# Altium schematic symbol library kmilo17pet-TI_LDO_0_350.SchLib: 1649 symbols (part 4 of 66)
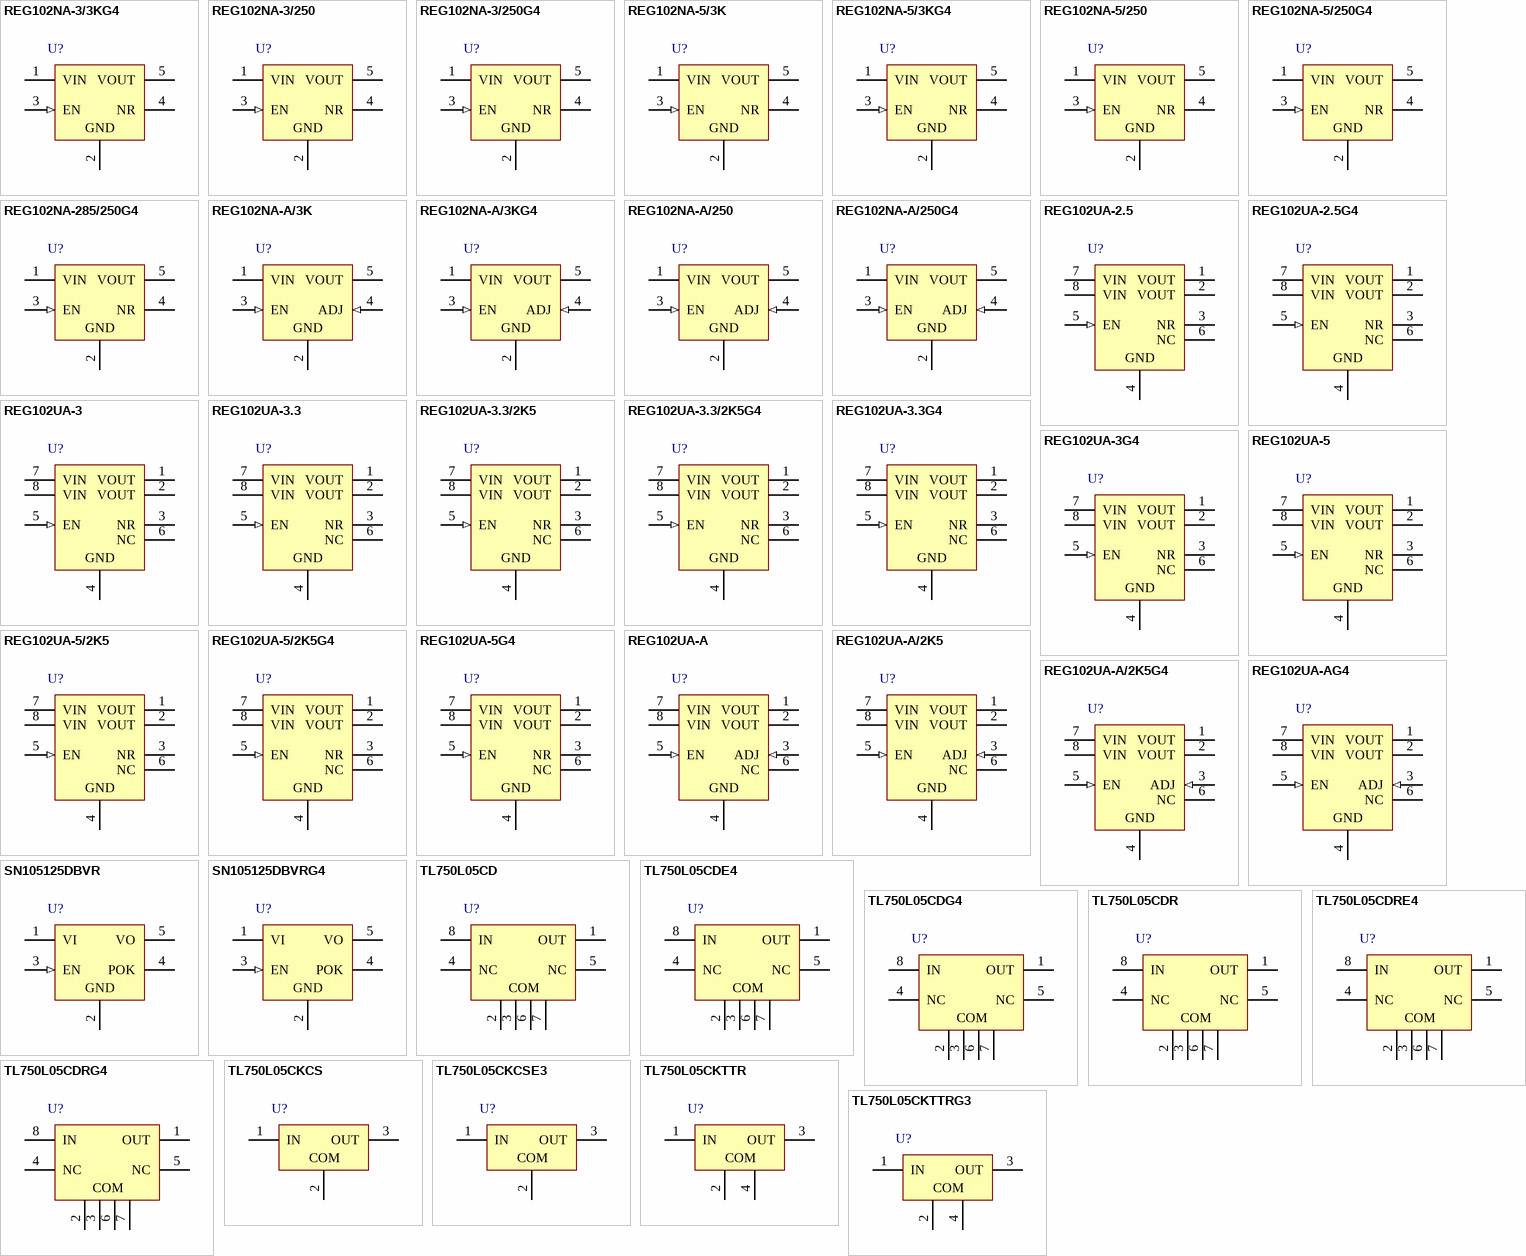
[diagram p45: symbols REG102NA-3/3KG4 to TL750L05CKTTRG3]

## REG102NA-A/250G4
designator U?
Single Output Fast Transient Response LDO, 250 mA, Adjustable 2.5 to 5.5 V Output, 1.8 to 12 V Input, 5-pin SOT-23 (DBV), -55 to 125 degC, Green (RoHS & no Sb/Br); Manufacturer: Texas Instruments; PartNumber: REG102NA-A/250G4; Accuracy(%): 1.5; Iout(Max)(A): 0.25; Iq(Typ)(mA): 0.4; SubFamily: Single Channel LDO; Vdo(Typ)(mV): 150; Vin(Max)(V): 12; Vin(Min)(V): 1.8; Vout Adj(Max)(V): 5.5; Vout Adj(Min)(V): 2.5; DatasheetVersion: SBVS024F; PackageVersion: 4073253-4/K; PackageReference: DBV5; PackageDescription: 5-Pin Plastic Small Outline, Body 1.60 Ã— 2.90 mm, Pitch 0.95 mm; Supplier 1: Digi-Key; Supplier Part Number 1: REG102NA-A/250G4-ND; Supplier 2: Mouser; Supplier Part Number 2: 595-REG102NA-A/250G4; Eco-Plan: Green (RoHS & no Sb/Br); Mounting Technology: Surface Mount; Code_JEDEC: MO-178; ComponentLink1Description: Manufacturer URL; ComponentLink1URL: http://www.ti.com/; ComponentLink2Description: Datasheet; ComponentLink2URL: http://www.ti.com/general/docs/lit/getliterature.tsp?genericPartNumber=REG102-A&fileType=pdf; ComponentLink3Description: Package Specification; ComponentLink3URL: http://www.ti.com/litv/pdf/mpds018i
footprint TI-DBV5_N (SOT23, 5-Leads, Body 2.9x1.6mm, Pitch 0.95mm, IPC Medium Density)
footprint TI-DBV5_L (SOT23, 5-Leads, Body 2.9x1.6mm, Pitch 0.95mm, IPC High Density)
footprint TI-DBV5_M (SOT23, 5-Leads, Body 2.9x1.6mm, Pitch 0.95mm, IPC Low Density)
pins: 1 VIN (power), 2 (power), 3 EN (in), 4 ADJ (in), 5 VOUT (power)
text: GND

## REG102UA-2.5
designator U?
Single Output Fast Transient Response LDO, 250 mA, Fixed 2.5 V Output, 1.8 to 12 V Input, 8-pin SOIC (D), -40 to 85 degC, Green (RoHS & no Sb/Br); Manufacturer: Texas Instruments; PartNumber: REG102UA-2.5; Accuracy(%): 1.5; Fixed Output Options(V): 2.5; Iout(Max)(A): 0.25; Iq(Typ)(mA): 0.4; SubFamily: Single Channel LDO; Vdo(Typ)(mV): 150; Vin(Max)(V): 12; Vin(Min)(V): 1.8; DatasheetVersion: SBVS024F; PackageVersion: 4040047-3/M; PackageReference: D8; PackageDescription: 8-Pin Plastic Small Outline, Body 4.9 x 3.9 mm, Pitch 1.27 mm; Supplier 1: Digi-Key; Supplier Part Number 1: REG102UA-2.5-ND; Supplier 2: Mouser; Supplier Part Number 2: 595-REG102UA-2.5; Eco-Plan: Green (RoHS & no Sb/Br); Vout Adj(Max)(V): 2.5; Vout Adj(Min)(V): 2.5; Mounting Technology: Surface Mount; Code_JEDEC: MS-012; ComponentLink1Description: Manufacturer URL; ComponentLink1URL: http://www.ti.com/; ComponentLink2Description: Datasheet; ComponentLink2URL: http://www.ti.com/general/docs/lit/getliterature.tsp?genericPartNumber=REG102-25&fileType=pdf; ComponentLink3Description: Package Specification; ComponentLink3URL: http://www.ti.com/litv/pdf/msoi002j
footprint TI-D8_N (SOIC, 8-Leads, Body 4.9x3.9mm, Pitch 1.27mm, IPC Medium Density)
footprint TI-D8_L (SOIC, 8-Leads, Body 4.9x3.9mm, Pitch 1.27mm, IPC High Density)
footprint TI-D8_M (SOIC, 8-Leads, Body 4.9x3.9mm, Pitch 1.27mm, IPC Low Density)
pins: 1 VOUT (power), 2 VOUT (power), 3 NR, 4 GND (power), 5 EN (in), 6 NC, 7 VIN (power), 8 VIN (power)

## REG102UA-2.5G4
designator U?
Single Output Fast Transient Response LDO, 250 mA, Fixed 2.5 V Output, 1.8 to 12 V Input, 8-pin SOIC (D), -55 to 125 degC, Green (RoHS & no Sb/Br); Manufacturer: Texas Instruments; PartNumber: REG102UA-2.5G4; Accuracy(%): 1.5; Fixed Output Options(V): 2.5; Iout(Max)(A): 0.25; Iq(Typ)(mA): 0.4; SubFamily: Single Channel LDO; Vdo(Typ)(mV): 150; Vin(Max)(V): 12; Vin(Min)(V): 1.8; DatasheetVersion: SBVS024F; PackageVersion: 4040047-3/M; PackageReference: D8; PackageDescription: 8-Pin Plastic Small Outline, Body 4.9 x 3.9 mm, Pitch 1.27 mm; Supplier 1: Digi-Key; Supplier Part Number 1: REG102UA-2.5G4-ND; Supplier 2: Newark; Supplier Part Number 2: 14M2178; Supplier 3: Mouser; Supplier Part Number 3: 595-REG102UA-2.5G4; Eco-Plan: Green (RoHS & no Sb/Br); Vout Adj(Max)(V): 2.5; Vout Adj(Min)(V): 2.5; Mounting Technology: Surface Mount; Code_JEDEC: MS-012; ComponentLink1Description: Manufacturer URL; ComponentLink1URL: http://www.ti.com/; ComponentLink2Description: Datasheet; ComponentLink2URL: http://www.ti.com/general/docs/lit/getliterature.tsp?genericPartNumber=REG102-25&fileType=pdf; ComponentLink3Description: Package Specification; ComponentLink3URL: http://www.ti.com/litv/pdf/msoi002j
footprint TI-D8_N (SOIC, 8-Leads, Body 4.9x3.9mm, Pitch 1.27mm, IPC Medium Density)
footprint TI-D8_L (SOIC, 8-Leads, Body 4.9x3.9mm, Pitch 1.27mm, IPC High Density)
footprint TI-D8_M (SOIC, 8-Leads, Body 4.9x3.9mm, Pitch 1.27mm, IPC Low Density)
pins: 1 VOUT (power), 2 VOUT (power), 3 NR, 4 GND (power), 5 EN (in), 6 NC, 7 VIN (power), 8 VIN (power)

## REG102UA-3
designator U?
Single Output Fast Transient Response LDO, 250 mA, Fixed 3 V Output, 1.8 to 12 V Input, 8-pin SOIC (D), -40 to 85 degC, Green (RoHS & no Sb/Br); Manufacturer: Texas Instruments; PartNumber: REG102UA-3; Accuracy(%): 1.5; Fixed Output Options(V): 3; Iout(Max)(A): 0.25; Iq(Typ)(mA): 0.4; SubFamily: Single Channel LDO; Vdo(Typ)(mV): 150; Vin(Max)(V): 12; Vin(Min)(V): 1.8; DatasheetVersion: SBVS024F; PackageVersion: 4040047-3/M; PackageReference: D8; PackageDescription: 8-Pin Plastic Small Outline, Body 4.9 x 3.9 mm, Pitch 1.27 mm; Supplier 1: Digi-Key; Supplier Part Number 1: REG102UA-3-ND; Supplier 2: Newark; Supplier Part Number 2: 75C7486; Supplier 3: Mouser; Supplier Part Number 3: 595-REG102UA-3; Eco-Plan: Green (RoHS & no Sb/Br); Vout Adj(Max)(V): 3; Vout Adj(Min)(V): 3; Mounting Technology: Surface Mount; Code_JEDEC: MS-012; ComponentLink1Description: Manufacturer URL; ComponentLink1URL: http://www.ti.com/; ComponentLink2Description: Datasheet; ComponentLink2URL: http://www.ti.com/general/docs/lit/getliterature.tsp?genericPartNumber=REG102-3&fileType=pdf; ComponentLink3Description: Package Specification; ComponentLink3URL: http://www.ti.com/litv/pdf/msoi002j
footprint TI-D8_N (SOIC, 8-Leads, Body 4.9x3.9mm, Pitch 1.27mm, IPC Medium Density)
footprint TI-D8_L (SOIC, 8-Leads, Body 4.9x3.9mm, Pitch 1.27mm, IPC High Density)
footprint TI-D8_M (SOIC, 8-Leads, Body 4.9x3.9mm, Pitch 1.27mm, IPC Low Density)
pins: 1 VOUT (power), 2 VOUT (power), 3 NR, 4 GND (power), 5 EN (in), 6 NC "Not connect", 7 VIN (power), 8 VIN (power)

## REG102UA-3.3
designator U?
Single Output Fast Transient Response LDO, 250 mA, Fixed 3.3 V Output, 1.8 to 12 V Input, 8-pin SOIC (D), -40 to 85 degC, Green (RoHS & no Sb/Br); Manufacturer: Texas Instruments; PartNumber: REG102UA-3.3; Accuracy(%): 1.5; Fixed Output Options(V): 3.3; Iout(Max)(A): 0.25; Iq(Typ)(mA): 0.4; SubFamily: Single Channel LDO; Vdo(Typ)(mV): 150; Vin(Max)(V): 12; Vin(Min)(V): 1.8; DatasheetVersion: SBVS024F; PackageVersion: 4040047-3/M; PackageReference: D8; PackageDescription: 8-Pin Plastic Small Outline, Body 4.9 x 3.9 mm, Pitch 1.27 mm; Supplier 1: Digi-Key; Supplier Part Number 1: REG102UA-3.3-ND; Supplier 2: Newark; Supplier Part Number 2: 75C7487; Supplier 3: Mouser; Supplier Part Number 3: 595-REG102UA-3.3; Eco-Plan: Green (RoHS & no Sb/Br); Vout Adj(Max)(V): 3.3; Vout Adj(Min)(V): 3.3; Mounting Technology: Surface Mount; Code_JEDEC: MS-012; ComponentLink1Description: Manufacturer URL; ComponentLink1URL: http://www.ti.com/; ComponentLink2Description: Datasheet; ComponentLink2URL: http://www.ti.com/general/docs/lit/getliterature.tsp?genericPartNumber=REG102-33&fileType=pdf; ComponentLink3Description: Package Specification; ComponentLink3URL: http://www.ti.com/litv/pdf/msoi002j
footprint TI-D8_N (SOIC, 8-Leads, Body 4.9x3.9mm, Pitch 1.27mm, IPC Medium Density)
footprint TI-D8_L (SOIC, 8-Leads, Body 4.9x3.9mm, Pitch 1.27mm, IPC High Density)
footprint TI-D8_M (SOIC, 8-Leads, Body 4.9x3.9mm, Pitch 1.27mm, IPC Low Density)
pins: 1 VOUT (power), 2 VOUT (power), 3 NR, 4 GND (power), 5 EN (in), 6 NC, 7 VIN (power), 8 VIN (power)

## REG102UA-3.3/2K5
designator U?
Single Output Fast Transient Response LDO, 250 mA, Fixed 3.3 V Output, 1.8 to 12 V Input, 8-pin SOIC (D), -40 to 85 degC, Green (RoHS & no Sb/Br); Manufacturer: Texas Instruments; PartNumber: REG102UA-3.3/2K5; Accuracy(%): 1.5; Fixed Output Options(V): 3.3; Iout(Max)(A): 0.25; Iq(Typ)(mA): 0.4; SubFamily: Single Channel LDO; Vdo(Typ)(mV): 150; Vin(Max)(V): 12; Vin(Min)(V): 1.8; DatasheetVersion: SBVS024F; PackageVersion: 4040047-3/M; PackageReference: D8; PackageDescription: 8-Pin Plastic Small Outline, Body 4.9 x 3.9 mm, Pitch 1.27 mm; Supplier 1: Digi-Key; Supplier Part Number 1: REG102UA-3.3/2K5-ND; Supplier 2: Newark; Supplier Part Number 2: 75C7488; Supplier 3: Mouser; Supplier Part Number 3: 595-REG102UA-3.3/2K5; Eco-Plan: Green (RoHS & no Sb/Br); Vout Adj(Max)(V): 3.3; Vout Adj(Min)(V): 3.3; Mounting Technology: Surface Mount; Code_JEDEC: MS-012; ComponentLink1Description: Manufacturer URL; ComponentLink1URL: http://www.ti.com/; ComponentLink2Description: Datasheet; ComponentLink2URL: http://www.ti.com/general/docs/lit/getliterature.tsp?genericPartNumber=REG102-33&fileType=pdf; ComponentLink3Description: Package Specification; ComponentLink3URL: http://www.ti.com/litv/pdf/msoi002j
footprint TI-D8_N (SOIC, 8-Leads, Body 4.9x3.9mm, Pitch 1.27mm, IPC Medium Density)
footprint TI-D8_L (SOIC, 8-Leads, Body 4.9x3.9mm, Pitch 1.27mm, IPC High Density)
footprint TI-D8_M (SOIC, 8-Leads, Body 4.9x3.9mm, Pitch 1.27mm, IPC Low Density)
pins: 1 VOUT (power), 2 VOUT (power), 3 NR, 4 GND (power), 5 EN (in), 6 NC, 7 VIN (power), 8 VIN (power)

## REG102UA-3.3/2K5G4
designator U?
Single Output Fast Transient Response LDO, 250 mA, Fixed 3.3 V Output, 1.8 to 12 V Input, 8-pin SOIC (D), -40 to 85 degC, Green (RoHS & no Sb/Br); Manufacturer: Texas Instruments; PartNumber: REG102UA-3.3/2K5G4; Accuracy(%): 1.5; Fixed Output Options(V): 3.3; Iout(Max)(A): 0.25; Iq(Typ)(mA): 0.4; SubFamily: Single Channel LDO; Vdo(Typ)(mV): 150; Vin(Max)(V): 12; Vin(Min)(V): 1.8; DatasheetVersion: SBVS024F; PackageVersion: 4040047-3/M; PackageReference: D8; PackageDescription: 8-Pin Plastic Small Outline, Body 4.9 x 3.9 mm, Pitch 1.27 mm; Supplier 1: Digi-Key; Supplier Part Number 1: REG102UA-3.3/2K5G4-ND; Supplier 2: Mouser; Supplier Part Number 2: 595-REG102UA-332K5G4; Eco-Plan: Green (RoHS & no Sb/Br); Vout Adj(Max)(V): 3.3; Vout Adj(Min)(V): 3.3; Mounting Technology: Surface Mount; Code_JEDEC: MS-012; ComponentLink1Description: Manufacturer URL; ComponentLink1URL: http://www.ti.com/; ComponentLink2Description: Datasheet; ComponentLink2URL: http://www.ti.com/general/docs/lit/getliterature.tsp?genericPartNumber=REG102-33&fileType=pdf; ComponentLink3Description: Package Specification; ComponentLink3URL: http://www.ti.com/litv/pdf/msoi002j
footprint TI-D8_N (SOIC, 8-Leads, Body 4.9x3.9mm, Pitch 1.27mm, IPC Medium Density)
footprint TI-D8_L (SOIC, 8-Leads, Body 4.9x3.9mm, Pitch 1.27mm, IPC High Density)
footprint TI-D8_M (SOIC, 8-Leads, Body 4.9x3.9mm, Pitch 1.27mm, IPC Low Density)
pins: 1 VOUT (power), 2 VOUT (power), 3 NR, 4 GND (power), 5 EN (in), 6 NC, 7 VIN (power), 8 VIN (power)

## REG102UA-3.3G4
designator U?
Single Output Fast Transient Response LDO, 250 mA, Fixed 3.3 V Output, 1.8 to 12 V Input, 8-pin SOIC (D), -40 to 85 degC, Green (RoHS & no Sb/Br); Manufacturer: Texas Instruments; PartNumber: REG102UA-3.3G4; Accuracy(%): 1.5; Fixed Output Options(V): 3.3; Iout(Max)(A): 0.25; Iq(Typ)(mA): 0.4; SubFamily: Single Channel LDO; Vdo(Typ)(mV): 150; Vin(Max)(V): 12; Vin(Min)(V): 1.8; DatasheetVersion: SBVS024F; PackageVersion: 4040047-3/M; PackageReference: D8; PackageDescription: 8-Pin Plastic Small Outline, Body 4.9 x 3.9 mm, Pitch 1.27 mm; Supplier 1: Digi-Key; Supplier Part Number 1: REG102UA-3.3G4-ND; Supplier 2: Newark; Supplier Part Number 2: 41M4026; Supplier 3: Mouser; Supplier Part Number 3: 595-REG102UA-3.3G4; Eco-Plan: Green (RoHS & no Sb/Br); Vout Adj(Max)(V): 3.3; Vout Adj(Min)(V): 3.3; Mounting Technology: Surface Mount; Code_JEDEC: MS-012; ComponentLink1Description: Manufacturer URL; ComponentLink1URL: http://www.ti.com/; ComponentLink2Description: Datasheet; ComponentLink2URL: http://www.ti.com/general/docs/lit/getliterature.tsp?genericPartNumber=REG102-33&fileType=pdf; ComponentLink3Description: Package Specification; ComponentLink3URL: http://www.ti.com/litv/pdf/msoi002j
footprint TI-D8_N (SOIC, 8-Leads, Body 4.9x3.9mm, Pitch 1.27mm, IPC Medium Density)
footprint TI-D8_L (SOIC, 8-Leads, Body 4.9x3.9mm, Pitch 1.27mm, IPC High Density)
footprint TI-D8_M (SOIC, 8-Leads, Body 4.9x3.9mm, Pitch 1.27mm, IPC Low Density)
pins: 1 VOUT (power), 2 VOUT (power), 3 NR, 4 GND (power), 5 EN (in), 6 NC, 7 VIN (power), 8 VIN (power)

## REG102UA-3G4
designator U?
Single Output Fast Transient Response LDO, 250 mA, Fixed 3 V Output, 1.8 to 12 V Input, 8-pin SOIC (D), -40 to 85 degC, Green (RoHS & no Sb/Br); Manufacturer: Texas Instruments; PartNumber: REG102UA-3G4; Accuracy(%): 1.5; Fixed Output Options(V): 3; Iout(Max)(A): 0.25; Iq(Typ)(mA): 0.4; SubFamily: Single Channel LDO; Vdo(Typ)(mV): 150; Vin(Max)(V): 12; Vin(Min)(V): 1.8; DatasheetVersion: SBVS024F; PackageVersion: 4040047-3/M; PackageReference: D8; PackageDescription: 8-Pin Plastic Small Outline, Body 4.9 x 3.9 mm, Pitch 1.27 mm; Supplier 1: Digi-Key; Supplier Part Number 1: REG102UA-3G4-ND; Supplier 2: Mouser; Supplier Part Number 2: 595-REG102UA-3G4; Eco-Plan: Green (RoHS & no Sb/Br); Vout Adj(Max)(V): 3; Vout Adj(Min)(V): 3; Mounting Technology: Surface Mount; Code_JEDEC: MS-012; ComponentLink1Description: Manufacturer URL; ComponentLink1URL: http://www.ti.com/; ComponentLink2Description: Datasheet; ComponentLink2URL: http://www.ti.com/general/docs/lit/getliterature.tsp?genericPartNumber=REG102-3&fileType=pdf; ComponentLink3Description: Package Specification; ComponentLink3URL: http://www.ti.com/litv/pdf/msoi002j
footprint TI-D8_N (SOIC, 8-Leads, Body 4.9x3.9mm, Pitch 1.27mm, IPC Medium Density)
footprint TI-D8_L (SOIC, 8-Leads, Body 4.9x3.9mm, Pitch 1.27mm, IPC High Density)
footprint TI-D8_M (SOIC, 8-Leads, Body 4.9x3.9mm, Pitch 1.27mm, IPC Low Density)
pins: 1 VOUT (power), 2 VOUT (power), 3 NR, 4 GND (power), 5 EN (in), 6 NC "Not connect", 7 VIN (power), 8 VIN (power)

## REG102UA-5
designator U?
Single Output Fast Transient Response LDO, 250 mA, Fixed 5 V Output, 1.8 to 12 V Input, 8-pin SOIC (D), -40 to 85 degC, Green (RoHS & no Sb/Br); Manufacturer: Texas Instruments; PartNumber: REG102UA-5; Accuracy(%): 1.5; Fixed Output Options(V): 5; Iout(Max)(A): 0.25; Iq(Typ)(mA): 0.4; SubFamily: Single Channel LDO; Vdo(Typ)(mV): 150; Vin(Max)(V): 12; Vin(Min)(V): 1.8; DatasheetVersion: SBVS024F; PackageVersion: 4040047-3/M; PackageReference: D8; PackageDescription: 8-Pin Plastic Small Outline, Body 4.9 x 3.9 mm, Pitch 1.27 mm; Supplier 1: Digi-Key; Supplier Part Number 1: REG102UA-5-ND; Supplier 2: Newark; Supplier Part Number 2: 75C7490; Supplier 3: Mouser; Supplier Part Number 3: 595-REG102UA-5; Eco-Plan: Green (RoHS & no Sb/Br); Vout Adj(Max)(V): 5; Vout Adj(Min)(V): 5; Mounting Technology: Surface Mount; Code_JEDEC: MS-012; ComponentLink1Description: Manufacturer URL; ComponentLink1URL: http://www.ti.com/; ComponentLink2Description: Datasheet; ComponentLink2URL: http://www.ti.com/general/docs/lit/getliterature.tsp?genericPartNumber=REG102-5&fileType=pdf; ComponentLink3Description: Package Specification; ComponentLink3URL: http://www.ti.com/litv/pdf/msoi002j
footprint TI-D8_N (SOIC, 8-Leads, Body 4.9x3.9mm, Pitch 1.27mm, IPC Medium Density)
footprint TI-D8_L (SOIC, 8-Leads, Body 4.9x3.9mm, Pitch 1.27mm, IPC High Density)
footprint TI-D8_M (SOIC, 8-Leads, Body 4.9x3.9mm, Pitch 1.27mm, IPC Low Density)
pins: 1 VOUT (power), 2 VOUT (power), 3 NR, 4 GND (power), 5 EN (in), 6 NC, 7 VIN (power), 8 VIN (power)

## REG102UA-5/2K5
designator U?
Single Output Fast Transient Response LDO, 250 mA, Fixed 5 V Output, 1.8 to 12 V Input, 8-pin SOIC (D), -40 to 85 degC, Green (RoHS & no Sb/Br); Manufacturer: Texas Instruments; PartNumber: REG102UA-5/2K5; Accuracy(%): 1.5; Fixed Output Options(V): 5; Iout(Max)(A): 0.25; Iq(Typ)(mA): 0.4; SubFamily: Single Channel LDO; Vdo(Typ)(mV): 150; Vin(Max)(V): 12; Vin(Min)(V): 1.8; DatasheetVersion: SBVS024F; PackageVersion: 4040047-3/M; PackageReference: D8; PackageDescription: 8-Pin Plastic Small Outline, Body 4.9 x 3.9 mm, Pitch 1.27 mm; Supplier 1: Digi-Key; Supplier Part Number 1: 296-29106-2-ND; Supplier 2: Digi-Key; Supplier Part Number 2: 296-29106-1-ND; Supplier 3: Digi-Key; Supplier Part Number 3: 296-29106-6-ND; Supplier 4: Mouser; Supplier Part Number 4: 595-REG102UA-5/2K5; Eco-Plan: Green (RoHS & no Sb/Br); Vout Adj(Max)(V): 5; Vout Adj(Min)(V): 5; Mounting Technology: Surface Mount; Code_JEDEC: MS-012; ComponentLink1Description: Manufacturer URL; ComponentLink1URL: http://www.ti.com/; ComponentLink2Description: Datasheet; ComponentLink2URL: http://www.ti.com/general/docs/lit/getliterature.tsp?genericPartNumber=REG102-5&fileType=pdf; ComponentLink3Description: Package Specification; ComponentLink3URL: http://www.ti.com/litv/pdf/msoi002j
footprint TI-D8_N (SOIC, 8-Leads, Body 4.9x3.9mm, Pitch 1.27mm, IPC Medium Density)
footprint TI-D8_L (SOIC, 8-Leads, Body 4.9x3.9mm, Pitch 1.27mm, IPC High Density)
footprint TI-D8_M (SOIC, 8-Leads, Body 4.9x3.9mm, Pitch 1.27mm, IPC Low Density)
pins: 1 VOUT (power), 2 VOUT (power), 3 NR, 4 GND (power), 5 EN (in), 6 NC, 7 VIN (power), 8 VIN (power)

## REG102UA-5/2K5G4
designator U?
Single Output Fast Transient Response LDO, 250 mA, Fixed 5 V Output, 1.8 to 12 V Input, 8-pin SOIC (D), -40 to 85 degC, Green (RoHS & no Sb/Br); Manufacturer: Texas Instruments; PartNumber: REG102UA-5/2K5G4; Accuracy(%): 1.5; Fixed Output Options(V): 5; Iout(Max)(A): 0.25; Iq(Typ)(mA): 0.4; SubFamily: Single Channel LDO; Vdo(Typ)(mV): 150; Vin(Max)(V): 12; Vin(Min)(V): 1.8; DatasheetVersion: SBVS024F; PackageVersion: 4040047-3/M; PackageReference: D8; PackageDescription: 8-Pin Plastic Small Outline, Body 4.9 x 3.9 mm, Pitch 1.27 mm; Supplier 1: Digi-Key; Supplier Part Number 1: REG102UA-5/2K5G4-ND; Supplier 2: Mouser; Supplier Part Number 2: 595-REG102UA-5/2K5G4; Eco-Plan: Green (RoHS & no Sb/Br); Vout Adj(Max)(V): 5; Vout Adj(Min)(V): 5; Mounting Technology: Surface Mount; Code_JEDEC: MS-012; ComponentLink1Description: Manufacturer URL; ComponentLink1URL: http://www.ti.com/; ComponentLink2Description: Datasheet; ComponentLink2URL: http://www.ti.com/general/docs/lit/getliterature.tsp?genericPartNumber=REG102-5&fileType=pdf; ComponentLink3Description: Package Specification; ComponentLink3URL: http://www.ti.com/litv/pdf/msoi002j
footprint TI-D8_N (SOIC, 8-Leads, Body 4.9x3.9mm, Pitch 1.27mm, IPC Medium Density)
footprint TI-D8_L (SOIC, 8-Leads, Body 4.9x3.9mm, Pitch 1.27mm, IPC High Density)
footprint TI-D8_M (SOIC, 8-Leads, Body 4.9x3.9mm, Pitch 1.27mm, IPC Low Density)
pins: 1 VOUT (power), 2 VOUT (power), 3 NR, 4 GND (power), 5 EN (in), 6 NC, 7 VIN (power), 8 VIN (power)

## REG102UA-5G4
designator U?
Single Output Fast Transient Response LDO, 250 mA, Fixed 5 V Output, 1.8 to 12 V Input, 8-pin SOIC (D), -40 to 85 degC, Green (RoHS & no Sb/Br); Manufacturer: Texas Instruments; PartNumber: REG102UA-5G4; Accuracy(%): 1.5; Fixed Output Options(V): 5; Iout(Max)(A): 0.25; Iq(Typ)(mA): 0.4; SubFamily: Single Channel LDO; Vdo(Typ)(mV): 150; Vin(Max)(V): 12; Vin(Min)(V): 1.8; DatasheetVersion: SBVS024F; PackageVersion: 4040047-3/M; PackageReference: D8; PackageDescription: 8-Pin Plastic Small Outline, Body 4.9 x 3.9 mm, Pitch 1.27 mm; Supplier 1: Digi-Key; Supplier Part Number 1: REG102UA-5G4-ND; Supplier 2: Mouser; Supplier Part Number 2: 595-REG102UA-5G4; Eco-Plan: Green (RoHS & no Sb/Br); Vout Adj(Max)(V): 5; Vout Adj(Min)(V): 5; Mounting Technology: Surface Mount; Code_JEDEC: MS-012; ComponentLink1Description: Manufacturer URL; ComponentLink1URL: http://www.ti.com/; ComponentLink2Description: Datasheet; ComponentLink2URL: http://www.ti.com/general/docs/lit/getliterature.tsp?genericPartNumber=REG102-5&fileType=pdf; ComponentLink3Description: Package Specification; ComponentLink3URL: http://www.ti.com/litv/pdf/msoi002j
footprint TI-D8_N (SOIC, 8-Leads, Body 4.9x3.9mm, Pitch 1.27mm, IPC Medium Density)
footprint TI-D8_L (SOIC, 8-Leads, Body 4.9x3.9mm, Pitch 1.27mm, IPC High Density)
footprint TI-D8_M (SOIC, 8-Leads, Body 4.9x3.9mm, Pitch 1.27mm, IPC Low Density)
pins: 1 VOUT (power), 2 VOUT (power), 3 NR, 4 GND (power), 5 EN (in), 6 NC, 7 VIN (power), 8 VIN (power)

## REG102UA-A
designator U?
Single Output Fast Transient Response LDO, 250 mA, Adjustable 2.5 to 5.5 V Output, 1.8 to 12 V Input, 8-pin SOIC (D), -55 to 125 degC, Green (RoHS & no Sb/Br); Manufacturer: Texas Instruments; PartNumber: REG102UA-A; Accuracy(%): 1.5; Iout(Max)(A): 0.25; Iq(Typ)(mA): 0.4; SubFamily: Single Channel LDO; Vdo(Typ)(mV): 150; Vin(Max)(V): 12; Vin(Min)(V): 1.8; Vout Adj(Max)(V): 5.5; Vout Adj(Min)(V): 2.5; DatasheetVersion: SBVS024F; PackageVersion: 4040047-3/M; PackageReference: D8; PackageDescription: 8-Pin Plastic Small Outline, Body 4.9 x 3.9 mm, Pitch 1.27 mm; Supplier 1: Digi-Key; Supplier Part Number 1: REG102UA-A-ND; Supplier 2: Newark; Supplier Part Number 2: 75C7478; Supplier 3: Mouser; Supplier Part Number 3: 595-REG102UA-A; Eco-Plan: Green (RoHS & no Sb/Br); Mounting Technology: Surface Mount; Code_JEDEC: MS-012; ComponentLink1Description: Manufacturer URL; ComponentLink1URL: http://www.ti.com/; ComponentLink2Description: Datasheet; ComponentLink2URL: http://www.ti.com/general/docs/lit/getliterature.tsp?genericPartNumber=REG102-A&fileType=pdf; ComponentLink3Description: Package Specification; ComponentLink3URL: http://www.ti.com/litv/pdf/msoi002j
footprint TI-D8_N (SOIC, 8-Leads, Body 4.9x3.9mm, Pitch 1.27mm, IPC Medium Density)
footprint TI-D8_L (SOIC, 8-Leads, Body 4.9x3.9mm, Pitch 1.27mm, IPC High Density)
footprint TI-D8_M (SOIC, 8-Leads, Body 4.9x3.9mm, Pitch 1.27mm, IPC Low Density)
pins: 1 VOUT (power), 2 VOUT (power), 3 ADJ (in), 4 GND (power), 5 EN (in), 6 NC, 7 VIN (power), 8 VIN (power)

## REG102UA-A/2K5
designator U?
Single Output Fast Transient Response LDO, 250 mA, Adjustable 2.5 to 5.5 V Output, 1.8 to 12 V Input, 8-pin SOIC (D), -55 to 125 degC, Green (RoHS & no Sb/Br); Manufacturer: Texas Instruments; PartNumber: REG102UA-A/2K5; Accuracy(%): 1.5; Iout(Max)(A): 0.25; Iq(Typ)(mA): 0.4; SubFamily: Single Channel LDO; Vdo(Typ)(mV): 150; Vin(Max)(V): 12; Vin(Min)(V): 1.8; Vout Adj(Max)(V): 5.5; Vout Adj(Min)(V): 2.5; DatasheetVersion: SBVS024F; PackageVersion: 4040047-3/M; PackageReference: D8; PackageDescription: 8-Pin Plastic Small Outline, Body 4.9 x 3.9 mm, Pitch 1.27 mm; Supplier 1: Digi-Key; Supplier Part Number 1: REG102UA-A/2K5-ND; Supplier 2: Mouser; Supplier Part Number 2: 595-REG102UA-A/2K5; Eco-Plan: Green (RoHS & no Sb/Br); Mounting Technology: Surface Mount; Code_JEDEC: MS-012; ComponentLink1Description: Manufacturer URL; ComponentLink1URL: http://www.ti.com/; ComponentLink2Description: Datasheet; ComponentLink2URL: http://www.ti.com/general/docs/lit/getliterature.tsp?genericPartNumber=REG102-A&fileType=pdf; ComponentLink3Description: Package Specification; ComponentLink3URL: http://www.ti.com/litv/pdf/msoi002j
footprint TI-D8_N (SOIC, 8-Leads, Body 4.9x3.9mm, Pitch 1.27mm, IPC Medium Density)
footprint TI-D8_L (SOIC, 8-Leads, Body 4.9x3.9mm, Pitch 1.27mm, IPC High Density)
footprint TI-D8_M (SOIC, 8-Leads, Body 4.9x3.9mm, Pitch 1.27mm, IPC Low Density)
pins: 1 VOUT (power), 2 VOUT (power), 3 ADJ (in), 4 GND (power), 5 EN (in), 6 NC, 7 VIN (power), 8 VIN (power)

## REG102UA-A/2K5G4
designator U?
Single Output Fast Transient Response LDO, 250 mA, Adjustable 2.5 to 5.5 V Output, 1.8 to 12 V Input, 8-pin SOIC (D), -55 to 125 degC, Green (RoHS & no Sb/Br); Manufacturer: Texas Instruments; PartNumber: REG102UA-A/2K5G4; Accuracy(%): 1.5; Iout(Max)(A): 0.25; Iq(Typ)(mA): 0.4; SubFamily: Single Channel LDO; Vdo(Typ)(mV): 150; Vin(Max)(V): 12; Vin(Min)(V): 1.8; Vout Adj(Max)(V): 5.5; Vout Adj(Min)(V): 2.5; DatasheetVersion: SBVS024F; PackageVersion: 4040047-3/M; PackageReference: D8; PackageDescription: 8-Pin Plastic Small Outline, Body 4.9 x 3.9 mm, Pitch 1.27 mm; Supplier 1: Digi-Key; Supplier Part Number 1: REG102UA-A/2K5G4-ND; Supplier 2: Newark; Supplier Part Number 2: 33M9727; Supplier 3: Mouser; Supplier Part Number 3: 595-REG102UA-A/2K5G4; Eco-Plan: Green (RoHS & no Sb/Br); Mounting Technology: Surface Mount; Code_JEDEC: MS-012; ComponentLink1Description: Manufacturer URL; ComponentLink1URL: http://www.ti.com/; ComponentLink2Description: Datasheet; ComponentLink2URL: http://www.ti.com/general/docs/lit/getliterature.tsp?genericPartNumber=REG102-A&fileType=pdf; ComponentLink3Description: Package Specification; ComponentLink3URL: http://www.ti.com/litv/pdf/msoi002j
footprint TI-D8_N (SOIC, 8-Leads, Body 4.9x3.9mm, Pitch 1.27mm, IPC Medium Density)
footprint TI-D8_L (SOIC, 8-Leads, Body 4.9x3.9mm, Pitch 1.27mm, IPC High Density)
footprint TI-D8_M (SOIC, 8-Leads, Body 4.9x3.9mm, Pitch 1.27mm, IPC Low Density)
pins: 1 VOUT (power), 2 VOUT (power), 3 ADJ (in), 4 GND (power), 5 EN (in), 6 NC, 7 VIN (power), 8 VIN (power)

## REG102UA-AG4
designator U?
Single Output Fast Transient Response LDO, 250 mA, Adjustable 2.5 to 5.5 V Output, 1.8 to 12 V Input, 8-pin SOIC (D), -55 to 125 degC, Green (RoHS & no Sb/Br); Manufacturer: Texas Instruments; PartNumber: REG102UA-AG4; Accuracy(%): 1.5; Iout(Max)(A): 0.25; Iq(Typ)(mA): 0.4; SubFamily: Single Channel LDO; Vdo(Typ)(mV): 150; Vin(Max)(V): 12; Vin(Min)(V): 1.8; Vout Adj(Max)(V): 5.5; Vout Adj(Min)(V): 2.5; DatasheetVersion: SBVS024F; PackageVersion: 4040047-3/M; PackageReference: D8; PackageDescription: 8-Pin Plastic Small Outline, Body 4.9 x 3.9 mm, Pitch 1.27 mm; Supplier 1: Digi-Key; Supplier Part Number 1: REG102UA-AG4-ND; Supplier 2: Mouser; Supplier Part Number 2: 595-REG102UA-AG4; Eco-Plan: Green (RoHS & no Sb/Br); Mounting Technology: Surface Mount; Code_JEDEC: MS-012; ComponentLink1Description: Manufacturer URL; ComponentLink1URL: http://www.ti.com/; ComponentLink2Description: Datasheet; ComponentLink2URL: http://www.ti.com/general/docs/lit/getliterature.tsp?genericPartNumber=REG102-A&fileType=pdf; ComponentLink3Description: Package Specification; ComponentLink3URL: http://www.ti.com/litv/pdf/msoi002j
footprint TI-D8_N (SOIC, 8-Leads, Body 4.9x3.9mm, Pitch 1.27mm, IPC Medium Density)
footprint TI-D8_L (SOIC, 8-Leads, Body 4.9x3.9mm, Pitch 1.27mm, IPC High Density)
footprint TI-D8_M (SOIC, 8-Leads, Body 4.9x3.9mm, Pitch 1.27mm, IPC Low Density)
pins: 1 VOUT (power), 2 VOUT (power), 3 ADJ (in), 4 GND (power), 5 EN (in), 6 NC, 7 VIN (power), 8 VIN (power)

## SN105125DBVR
designator U?
Single Output LDO, 150 mA, Fixed 1.2 V Output, 3 to 5.2 V Input, with Power Okay Function, 5-pin SOT-23 (DBV), 0 to 70 degC, Green (RoHS & no Sb/Br); Manufacturer: Texas Instruments; PartNumber: SN105125DBVR; Accuracy(%): 2; Fixed Output Options(V): 1.2; Iout(Max)(A): 0.15; Rating: Catalog; SubFamily: Single Channel LDO; Vdo(Typ)(mV): 1000; Vin(Max)(V): 5.2; Vin(Min)(V): 3; DatasheetVersion: SLVS418; PackageVersion: 4073253-4/K; PackageReference: DBV5; PackageDescription: 5-Pin Plastic Small Outline, Body 1.60 Ã— 2.90 mm, Pitch 0.95 mm; Supplier 1: Digi-Key; Supplier Part Number 1: 296-15347-2-ND; Supplier 2: Digi-Key; Supplier Part Number 2: 296-15347-1-ND; Supplier 3: Digi-Key; Supplier Part Number 3: 296-15347-6-ND; Supplier 4: Farnell; Supplier Part Number 4: 2075411; Supplier 5: Newark; Supplier Part Number 5: 67H1525; Supplier 6: Mouser; Supplier Part Number 6: 595-SN105125DBVR; Eco-Plan: Green (RoHS & no Sb/Br); Iq(Typ)(mA): 0.15; Vout Adj(Max)(V): 1.2; Vout Adj(Min)(V): 1.2; Mounting Technology: Surface Mount; Code_JEDEC: MO-178; ComponentLink1Description: Manufacturer URL; ComponentLink1URL: http://www.ti.com/; ComponentLink2Description: Datasheet; ComponentLink2URL: http://www.ti.com/general/docs/lit/getliterature.tsp?genericPartNumber=SN105125&fileType=pdf; ComponentLink3Description: Package Specification; ComponentLink3URL: http://www.ti.com/litv/pdf/mpds018i
footprint TI-DBV5_N (SOT23, 5-Leads, Body 2.9x1.6mm, Pitch 0.95mm, IPC Medium Density)
footprint TI-DBV5_L (SOT23, 5-Leads, Body 2.9x1.6mm, Pitch 0.95mm, IPC High Density)
footprint TI-DBV5_M (SOT23, 5-Leads, Body 2.9x1.6mm, Pitch 0.95mm, IPC Low Density)
pins: 1 VI (power) "Input supply voltage", 2 GND (power) "Ground", 3 EN (in) "Enable/shutdown input (active high)", 4 POK (oc) "Power okay indicator", 5 VO (power) "Output voltage"

## SN105125DBVRG4
designator U?
Single Output LDO, 150 mA, Fixed 1.2 V Output, 3 to 5.2 V Input, with Power Okay Function, 5-pin SOT-23 (DBV), 0 to 70 degC, Green (RoHS & no Sb/Br); Manufacturer: Texas Instruments; PartNumber: SN105125DBVRG4; Accuracy(%): 2; Fixed Output Options(V): 1.2; Iout(Max)(A): 0.15; Rating: Catalog; SubFamily: Single Channel LDO; Vdo(Typ)(mV): 1000; Vin(Max)(V): 5.2; Vin(Min)(V): 3; DatasheetVersion: SLVS418; PackageVersion: 4073253-4/K; PackageReference: DBV5; PackageDescription: 5-Pin Plastic Small Outline, Body 1.60 Ã— 2.90 mm, Pitch 0.95 mm; Supplier 1: Digi-Key; Supplier Part Number 1: SN105125DBVRG4-ND; Supplier 2: Mouser; Supplier Part Number 2: 595-SN105125DBVRG4; Eco-Plan: Green (RoHS & no Sb/Br); Iq(Typ)(mA): 0.15; Vout Adj(Max)(V): 1.2; Vout Adj(Min)(V): 1.2; Mounting Technology: Surface Mount; Code_JEDEC: MO-178; ComponentLink1Description: Manufacturer URL; ComponentLink1URL: http://www.ti.com/; ComponentLink2Description: Datasheet; ComponentLink2URL: http://www.ti.com/general/docs/lit/getliterature.tsp?genericPartNumber=SN105125&fileType=pdf; ComponentLink3Description: Package Specification; ComponentLink3URL: http://www.ti.com/litv/pdf/mpds018i
footprint TI-DBV5_N (SOT23, 5-Leads, Body 2.9x1.6mm, Pitch 0.95mm, IPC Medium Density)
footprint TI-DBV5_L (SOT23, 5-Leads, Body 2.9x1.6mm, Pitch 0.95mm, IPC High Density)
footprint TI-DBV5_M (SOT23, 5-Leads, Body 2.9x1.6mm, Pitch 0.95mm, IPC Low Density)
pins: 1 VI (power) "Input supply voltage", 2 GND (power) "Ground", 3 EN (in) "Enable/shutdown input (active high)", 4 POK (oc) "Power okay indicator", 5 VO (power) "Output voltage"

## TL750L05CD
designator U?
Single Output LDO, 150 mA, Fixed 5 V Output, 6 to 26 V Input, with Low IQ, 8-pin SOIC (D), 0 to 125 degC, Green (RoHS & no Sb/Br); Manufacturer: Texas Instruments; PartNumber: TL750L05CD; Accuracy(%): 4; Fixed Output Options(V): 5; Iout(Max)(A): 0.15; Iq(Typ)(mA): 1; Rating: Catalog; SubFamily: Single Channel LDO; Vdo(Typ)(mV): 600; Vin(Max)(V): 26; Vin(Min)(V): 6; DatasheetVersion: SLVS017U; PackageVersion: 4040047-3/M; PackageReference: D8; PackageDescription: 8-Pin Plastic Small Outline, Body 4.9 x 3.9 mm, Pitch 1.27 mm; Supplier 1: Digi-Key; Supplier Part Number 1: 296-8000-5-ND; Supplier 2: Farnell; Supplier Part Number 2: 9593659; Supplier 3: Newark; Supplier Part Number 3: 20C8680; Supplier 4: Mouser; Supplier Part Number 4: 595-TL750L05CD; Eco-Plan: Green (RoHS & no Sb/Br); Vout Adj(Max)(V): 5; Vout Adj(Min)(V): 5; Mounting Technology: Surface Mount; Code_JEDEC: MS-012; ComponentLink1Description: Manufacturer URL; ComponentLink1URL: http://www.ti.com/; ComponentLink2Description: Datasheet; ComponentLink2URL: http://www.ti.com/general/docs/lit/getliterature.tsp?genericPartNumber=TL750L05&fileType=pdf; ComponentLink3Description: Package Specification; ComponentLink3URL: http://www.ti.com/litv/pdf/msoi002j; ComponentLink4Description: URL Link1; ComponentLink4URL: Samples URL:http://www.ti.com/product/tl750l05#samples
footprint TI-D8_N (SOIC, 8-Leads, Body 4.9x3.9mm, Pitch 1.27mm, IPC Medium Density)
footprint TI-D8_L (SOIC, 8-Leads, Body 4.9x3.9mm, Pitch 1.27mm, IPC High Density)
footprint TI-D8_M (SOIC, 8-Leads, Body 4.9x3.9mm, Pitch 1.27mm, IPC Low Density)
pins: 1 OUT (power), 2 COM (power), 3 COM (power), 4 NC "No internal connection", 5 NC "No internal connection", 6 COM (power), 7 COM (power), 8 IN (power)

## TL750L05CDE4
designator U?
Single Output LDO, 150 mA, Fixed 5 V Output, 6 to 26 V Input, with Low IQ, 8-pin SOIC (D), 0 to 125 degC, Green (RoHS & no Sb/Br); Manufacturer: Texas Instruments; PartNumber: TL750L05CDE4; Accuracy(%): 4; Fixed Output Options(V): 5; Iout(Max)(A): 0.15; Iq(Typ)(mA): 1; Rating: Catalog; SubFamily: Single Channel LDO; Vdo(Typ)(mV): 600; Vin(Max)(V): 26; Vin(Min)(V): 6; DatasheetVersion: SLVS017U; PackageVersion: 4040047-3/M; PackageReference: D8; PackageDescription: 8-Pin Plastic Small Outline, Body 4.9 x 3.9 mm, Pitch 1.27 mm; Supplier 1: Digi-Key; Supplier Part Number 1: TL750L05CDE4-ND; Supplier 2: Newark; Supplier Part Number 2: 37K4563; Supplier 3: Mouser; Supplier Part Number 3: 595-TL750L05CDE4; Eco-Plan: Green (RoHS & no Sb/Br); Vout Adj(Max)(V): 5; Vout Adj(Min)(V): 5; Mounting Technology: Surface Mount; Code_JEDEC: MS-012; ComponentLink1Description: Manufacturer URL; ComponentLink1URL: http://www.ti.com/; ComponentLink2Description: Datasheet; ComponentLink2URL: http://www.ti.com/general/docs/lit/getliterature.tsp?genericPartNumber=TL750L05&fileType=pdf; ComponentLink3Description: Package Specification; ComponentLink3URL: http://www.ti.com/litv/pdf/msoi002j; ComponentLink4Description: URL Link1; ComponentLink4URL: Samples URL:http://www.ti.com/product/tl750l05#samples
footprint TI-D8_N (SOIC, 8-Leads, Body 4.9x3.9mm, Pitch 1.27mm, IPC Medium Density)
footprint TI-D8_L (SOIC, 8-Leads, Body 4.9x3.9mm, Pitch 1.27mm, IPC High Density)
footprint TI-D8_M (SOIC, 8-Leads, Body 4.9x3.9mm, Pitch 1.27mm, IPC Low Density)
pins: 1 OUT (power), 2 COM (power), 3 COM (power), 4 NC "No internal connection", 5 NC "No internal connection", 6 COM (power), 7 COM (power), 8 IN (power)

## TL750L05CDG4
designator U?
Single Output LDO, 150 mA, Fixed 5 V Output, 6 to 26 V Input, with Low IQ, 8-pin SOIC (D), 0 to 125 degC, Green (RoHS & no Sb/Br); Manufacturer: Texas Instruments; PartNumber: TL750L05CDG4; Accuracy(%): 4; Fixed Output Options(V): 5; Iout(Max)(A): 0.15; Iq(Typ)(mA): 1; Rating: Catalog; SubFamily: Single Channel LDO; Vdo(Typ)(mV): 600; Vin(Max)(V): 26; Vin(Min)(V): 6; DatasheetVersion: SLVS017U; PackageVersion: 4040047-3/M; PackageReference: D8; PackageDescription: 8-Pin Plastic Small Outline, Body 4.9 x 3.9 mm, Pitch 1.27 mm; Supplier 1: Digi-Key; Supplier Part Number 1: TL750L05CDG4-ND; Supplier 2: Newark; Supplier Part Number 2: 41M5780; Supplier 3: Mouser; Supplier Part Number 3: 595-TL750L05CDG4; Eco-Plan: Green (RoHS & no Sb/Br); Vout Adj(Max)(V): 5; Vout Adj(Min)(V): 5; Mounting Technology: Surface Mount; Code_JEDEC: MS-012; ComponentLink1Description: Manufacturer URL; ComponentLink1URL: http://www.ti.com/; ComponentLink2Description: Datasheet; ComponentLink2URL: http://www.ti.com/general/docs/lit/getliterature.tsp?genericPartNumber=TL750L05&fileType=pdf; ComponentLink3Description: Package Specification; ComponentLink3URL: http://www.ti.com/litv/pdf/msoi002j; ComponentLink4Description: URL Link1; ComponentLink4URL: Samples URL:http://www.ti.com/product/tl750l05#samples
footprint TI-D8_N (SOIC, 8-Leads, Body 4.9x3.9mm, Pitch 1.27mm, IPC Medium Density)
footprint TI-D8_L (SOIC, 8-Leads, Body 4.9x3.9mm, Pitch 1.27mm, IPC High Density)
footprint TI-D8_M (SOIC, 8-Leads, Body 4.9x3.9mm, Pitch 1.27mm, IPC Low Density)
pins: 1 OUT (power), 2 COM (power), 3 COM (power), 4 NC "No internal connection", 5 NC "No internal connection", 6 COM (power), 7 COM (power), 8 IN (power)

## TL750L05CDR
designator U?
Single Output LDO, 150 mA, Fixed 5 V Output, 6 to 26 V Input, with Low IQ, 8-pin SOIC (D), 0 to 125 degC, Green (RoHS & no Sb/Br); Manufacturer: Texas Instruments; PartNumber: TL750L05CDR; Accuracy(%): 4; Fixed Output Options(V): 5; Iout(Max)(A): 0.15; Iq(Typ)(mA): 1; Rating: Catalog; SubFamily: Single Channel LDO; Vdo(Typ)(mV): 600; Vin(Max)(V): 26; Vin(Min)(V): 6; DatasheetVersion: SLVS017U; PackageVersion: 4040047-3/M; PackageReference: D8; PackageDescription: 8-Pin Plastic Small Outline, Body 4.9 x 3.9 mm, Pitch 1.27 mm; Supplier 1: Digi-Key; Supplier Part Number 1: 296-15014-2-ND; Supplier 2: Digi-Key; Supplier Part Number 2: 296-15014-1-ND; Supplier 3: Digi-Key; Supplier Part Number 3: 296-15014-6-ND; Supplier 4: Newark; Supplier Part Number 4: 76C9326; Supplier 5: Mouser; Supplier Part Number 5: 595-TL750L05CDR; Eco-Plan: Green (RoHS & no Sb/Br); Vout Adj(Max)(V): 5; Vout Adj(Min)(V): 5; Mounting Technology: Surface Mount; Code_JEDEC: MS-012; ComponentLink1Description: Manufacturer URL; ComponentLink1URL: http://www.ti.com/; ComponentLink2Description: Datasheet; ComponentLink2URL: http://www.ti.com/general/docs/lit/getliterature.tsp?genericPartNumber=TL750L05&fileType=pdf; ComponentLink3Description: Package Specification; ComponentLink3URL: http://www.ti.com/litv/pdf/msoi002j; ComponentLink4Description: URL Link1; ComponentLink4URL: Samples URL:http://www.ti.com/product/tl750l05#samples
footprint TI-D8_N (SOIC, 8-Leads, Body 4.9x3.9mm, Pitch 1.27mm, IPC Medium Density)
footprint TI-D8_L (SOIC, 8-Leads, Body 4.9x3.9mm, Pitch 1.27mm, IPC High Density)
footprint TI-D8_M (SOIC, 8-Leads, Body 4.9x3.9mm, Pitch 1.27mm, IPC Low Density)
pins: 1 OUT (power), 2 COM (power), 3 COM (power), 4 NC "No internal connection", 5 NC "No internal connection", 6 COM (power), 7 COM (power), 8 IN (power)

## TL750L05CDRE4
designator U?
Single Output LDO, 150 mA, Fixed 5 V Output, 6 to 26 V Input, with Low IQ, 8-pin SOIC (D), 0 to 125 degC, Green (RoHS & no Sb/Br); Manufacturer: Texas Instruments; PartNumber: TL750L05CDRE4; Accuracy(%): 4; Fixed Output Options(V): 5; Iout(Max)(A): 0.15; Iq(Typ)(mA): 1; Rating: Catalog; SubFamily: Single Channel LDO; Vdo(Typ)(mV): 600; Vin(Max)(V): 26; Vin(Min)(V): 6; DatasheetVersion: SLVS017U; PackageVersion: 4040047-3/M; PackageReference: D8; PackageDescription: 8-Pin Plastic Small Outline, Body 4.9 x 3.9 mm, Pitch 1.27 mm; Supplier 1: Digi-Key; Supplier Part Number 1: TL750L05CDRE4-ND; Supplier 2: Newark; Supplier Part Number 2: 37K4564; Supplier 3: Mouser; Supplier Part Number 3: 595-TL750L05CDRE4; Eco-Plan: Green (RoHS & no Sb/Br); Vout Adj(Max)(V): 5; Vout Adj(Min)(V): 5; Mounting Technology: Surface Mount; Code_JEDEC: MS-012; ComponentLink1Description: Manufacturer URL; ComponentLink1URL: http://www.ti.com/; ComponentLink2Description: Datasheet; ComponentLink2URL: http://www.ti.com/general/docs/lit/getliterature.tsp?genericPartNumber=TL750L05&fileType=pdf; ComponentLink3Description: Package Specification; ComponentLink3URL: http://www.ti.com/litv/pdf/msoi002j; ComponentLink4Description: URL Link1; ComponentLink4URL: Samples URL:http://www.ti.com/product/tl750l05#samples
footprint TI-D8_N (SOIC, 8-Leads, Body 4.9x3.9mm, Pitch 1.27mm, IPC Medium Density)
footprint TI-D8_L (SOIC, 8-Leads, Body 4.9x3.9mm, Pitch 1.27mm, IPC High Density)
footprint TI-D8_M (SOIC, 8-Leads, Body 4.9x3.9mm, Pitch 1.27mm, IPC Low Density)
pins: 1 OUT (power), 2 COM (power), 3 COM (power), 4 NC "No internal connection", 5 NC "No internal connection", 6 COM (power), 7 COM (power), 8 IN (power)

## TL750L05CDRG4
designator U?
Single Output LDO, 150 mA, Fixed 5 V Output, 6 to 26 V Input, with Low IQ, 8-pin SOIC (D), 0 to 125 degC, Green (RoHS & no Sb/Br); Manufacturer: Texas Instruments; PartNumber: TL750L05CDRG4; Accuracy(%): 4; Fixed Output Options(V): 5; Iout(Max)(A): 0.15; Iq(Typ)(mA): 1; Rating: Catalog; SubFamily: Single Channel LDO; Vdo(Typ)(mV): 600; Vin(Max)(V): 26; Vin(Min)(V): 6; DatasheetVersion: SLVS017U; PackageVersion: 4040047-3/M; PackageReference: D8; PackageDescription: 8-Pin Plastic Small Outline, Body 4.9 x 3.9 mm, Pitch 1.27 mm; Supplier 1: Digi-Key; Supplier Part Number 1: TL750L05CDRG4-ND; Supplier 2: Newark; Supplier Part Number 2: 41M5781; Supplier 3: Mouser; Supplier Part Number 3: 595-TL750L05CDRG4; Eco-Plan: Green (RoHS & no Sb/Br); Vout Adj(Max)(V): 5; Vout Adj(Min)(V): 5; Mounting Technology: Surface Mount; Code_JEDEC: MS-012; ComponentLink1Description: Manufacturer URL; ComponentLink1URL: http://www.ti.com/; ComponentLink2Description: Datasheet; ComponentLink2URL: http://www.ti.com/general/docs/lit/getliterature.tsp?genericPartNumber=TL750L05&fileType=pdf; ComponentLink3Description: Package Specification; ComponentLink3URL: http://www.ti.com/litv/pdf/msoi002j; ComponentLink4Description: URL Link1; ComponentLink4URL: Samples URL:http://www.ti.com/product/tl750l05#samples
footprint TI-D8_N (SOIC, 8-Leads, Body 4.9x3.9mm, Pitch 1.27mm, IPC Medium Density)
footprint TI-D8_L (SOIC, 8-Leads, Body 4.9x3.9mm, Pitch 1.27mm, IPC High Density)
footprint TI-D8_M (SOIC, 8-Leads, Body 4.9x3.9mm, Pitch 1.27mm, IPC Low Density)
pins: 1 OUT (power), 2 COM (power), 3 COM (power), 4 NC "No internal connection", 5 NC "No internal connection", 6 COM (power), 7 COM (power), 8 IN (power)

## TL750L05CKCS
designator U?
Single Output LDO, 150 mA, Fixed 5 V Output, 6 to 26 V Input, with Low IQ, 3-pin TO-220 (KCS), 0 to 125 degC, Pb-Free (RoHS); Manufacturer: Texas Instruments; PartNumber: TL750L05CKCS; Accuracy(%): 4; Fixed Output Options(V): 5; Iout(Max)(A): 0.15; Iq(Typ)(mA): 1; Rating: Catalog; SubFamily: Single Channel LDO; Vdo(Typ)(mV): 600; Vin(Max)(V): 26; Vin(Min)(V): 6; DatasheetVersion: SLVS017U; PackageVersion: 4204749/E; PackageReference: KCS3; PackageDescription: 3-Pin Plastic Flange Mount; Supplier 1: Digi-Key; Supplier Part Number 1: 296-21342-5-ND; Supplier 2: Newark; Supplier Part Number 2: 22M1813; Supplier 3: Mouser; Supplier Part Number 3: 595-TL750L05CKCS; Eco-Plan: Pb-Free (RoHS); Vout Adj(Max)(V): 5; Vout Adj(Min)(V): 5; Mounting Technology: Through Hole; Code_JEDEC: TO-220; ComponentLink1Description: Manufacturer URL; ComponentLink1URL: http://www.ti.com/; ComponentLink2Description: Datasheet; ComponentLink2URL: http://www.ti.com/general/docs/lit/getliterature.tsp?genericPartNumber=TL750L05&fileType=pdf; ComponentLink3Description: Package Specification; ComponentLink3URL: http://www.ti.com/litv/pdf/mpsf017d; ComponentLink4Description: URL Link1; ComponentLink4URL: Samples URL:http://www.ti.com/product/tl750l05#samples
footprint TI-KCS3 (Flange Mount, 3-Leads, Body 10.16x4.51mm, Pitch 2.54mm)
pins: 1 IN (power), 2 COM (power), 3 OUT (power)

## TL750L05CKCSE3
designator U?
Single Output LDO, 150 mA, Fixed 5 V Output, 6 to 26 V Input, with Low IQ, 3-pin TO-220 (KCS), 0 to 125 degC, Pb-Free (RoHS); Manufacturer: Texas Instruments; PartNumber: TL750L05CKCSE3; Accuracy(%): 4; Fixed Output Options(V): 5; Iout(Max)(A): 0.15; Iq(Typ)(mA): 1; Rating: Catalog; SubFamily: Single Channel LDO; Vdo(Typ)(mV): 600; Vin(Max)(V): 26; Vin(Min)(V): 6; DatasheetVersion: SLVS017U; PackageVersion: 4204749/E; PackageReference: KCS3; PackageDescription: 3-Pin Plastic Flange Mount; Supplier 1: Digi-Key; Supplier Part Number 1: TL750L05CKCSE3-ND; Supplier 2: Newark; Supplier Part Number 2: 65M5935; Supplier 3: Mouser; Supplier Part Number 3: 595-TL750L05CKCSE3; Eco-Plan: Pb-Free (RoHS); Vout Adj(Max)(V): 5; Vout Adj(Min)(V): 5; Mounting Technology: Through Hole; Code_JEDEC: TO-220; ComponentLink1Description: Manufacturer URL; ComponentLink1URL: http://www.ti.com/; ComponentLink2Description: Datasheet; ComponentLink2URL: http://www.ti.com/general/docs/lit/getliterature.tsp?genericPartNumber=TL750L05&fileType=pdf; ComponentLink3Description: Package Specification; ComponentLink3URL: http://www.ti.com/litv/pdf/mpsf017d; ComponentLink4Description: URL Link1; ComponentLink4URL: Samples URL:http://www.ti.com/product/tl750l05#samples
footprint TI-KCS3 (Flange Mount, 3-Leads, Body 10.16x4.51mm, Pitch 2.54mm)
pins: 1 IN (power), 2 COM (power), 3 OUT (power)

## TL750L05CKTTR
designator U?
Single Output LDO, 150 mA, Fixed 5 V Output, 6 to 26 V Input, with Low IQ, 3-pin DDPAK (KTT), 0 to 125 degC, Green (RoHS & no Sb/Br); Manufacturer: Texas Instruments; PartNumber: TL750L05CKTTR; Accuracy(%): 4; Fixed Output Options(V): 5; Iout(Max)(A): 0.15; Iq(Typ)(mA): 1; Rating: Catalog; SubFamily: Single Channel LDO; Vdo(Typ)(mV): 600; Vin(Max)(V): 26; Vin(Min)(V): 6; DatasheetVersion: SLVS017U; PackageVersion: 4200577-2/F; PackageReference: KTT3; PackageDescription: 3-Pin Plastic Flange Mount, Body 10.16 x 10.43 mm, Pitch 2.54 mm; Supplier 1: Digi-Key; Supplier Part Number 1: 296-22840-2-ND; Supplier 2: Digi-Key; Supplier Part Number 2: 296-22840-1-ND; Supplier 3: Digi-Key; Supplier Part Number 3: 296-22840-6-ND; Supplier 4: Newark; Supplier Part Number 4: 50M9113; Supplier 5: Mouser; Supplier Part Number 5: 595-TL750L05CKTTR; Eco-Plan: Green (RoHS & no Sb/Br); Vout Adj(Max)(V): 5; Vout Adj(Min)(V): 5; Mounting Technology: Surface Mount; Code_JEDEC: TO-263; ComponentLink1Description: Manufacturer URL; ComponentLink1URL: http://www.ti.com/; ComponentLink2Description: Datasheet; ComponentLink2URL: http://www.ti.com/general/docs/lit/getliterature.tsp?genericPartNumber=TL750L05&fileType=pdf; ComponentLink3Description: Package Specification; ComponentLink3URL: http://www.ti.com/litv/pdf/mpsf006e; ComponentLink4Description: URL Link1; ComponentLink4URL: Samples URL:http://www.ti.com/product/tl750l05#samples
footprint TI-KTT3_N (DPAK, 3-Leads, Body 10.16x9.015mm, Pitch 2.54mm, IPC Medium Density)
footprint TI-KTT3_L (DPAK, 3-Leads, Body 10.16x9.015mm, Pitch 2.54mm, IPC High Density)
footprint TI-KTT3_M (DPAK, 3-Leads, Body 10.16x9.015mm, Pitch 2.54mm, IPC Low Density)
pins: 1 IN (power), 2 COM (power), 3 OUT (power), 4 COM (power)

## TL750L05CKTTRG3
designator U?
Single Output LDO, 150 mA, Fixed 5 V Output, 6 to 26 V Input, with Low IQ, 3-pin DDPAK (KTT), 0 to 125 degC, Green (RoHS & no Sb/Br); Manufacturer: Texas Instruments; PartNumber: TL750L05CKTTRG3; Accuracy(%): 4; Fixed Output Options(V): 5; Iout(Max)(A): 0.15; Iq(Typ)(mA): 1; Rating: Catalog; SubFamily: Single Channel LDO; Vdo(Typ)(mV): 600; Vin(Max)(V): 26; Vin(Min)(V): 6; DatasheetVersion: SLVS017U; PackageVersion: 4200577-2/F; PackageReference: KTT3; PackageDescription: 3-Pin Plastic Flange Mount, Body 10.16 x 10.43 mm, Pitch 2.54 mm; Supplier 1: Digi-Key; Supplier Part Number 1: TL750L05CKTTRG3-ND; Supplier 2: Newark; Supplier Part Number 2: 62M0621; Supplier 3: Mouser; Supplier Part Number 3: 595-TL750L05CKTTRG3; Eco-Plan: Green (RoHS & no Sb/Br); Vout Adj(Max)(V): 5; Vout Adj(Min)(V): 5; Mounting Technology: Surface Mount; Code_JEDEC: TO-263; ComponentLink1Description: Manufacturer URL; ComponentLink1URL: http://www.ti.com/; ComponentLink2Description: Datasheet; ComponentLink2URL: http://www.ti.com/general/docs/lit/getliterature.tsp?genericPartNumber=TL750L05&fileType=pdf; ComponentLink3Description: Package Specification; ComponentLink3URL: http://www.ti.com/litv/pdf/mpsf006e; ComponentLink4Description: URL Link1; ComponentLink4URL: Samples URL:http://www.ti.com/product/tl750l05#samples
footprint TI-KTT3_N (DPAK, 3-Leads, Body 10.16x9.015mm, Pitch 2.54mm, IPC Medium Density)
footprint TI-KTT3_L (DPAK, 3-Leads, Body 10.16x9.015mm, Pitch 2.54mm, IPC High Density)
footprint TI-KTT3_M (DPAK, 3-Leads, Body 10.16x9.015mm, Pitch 2.54mm, IPC Low Density)
pins: 1 IN (power), 2 COM (power), 3 OUT (power), 4 COM (power)

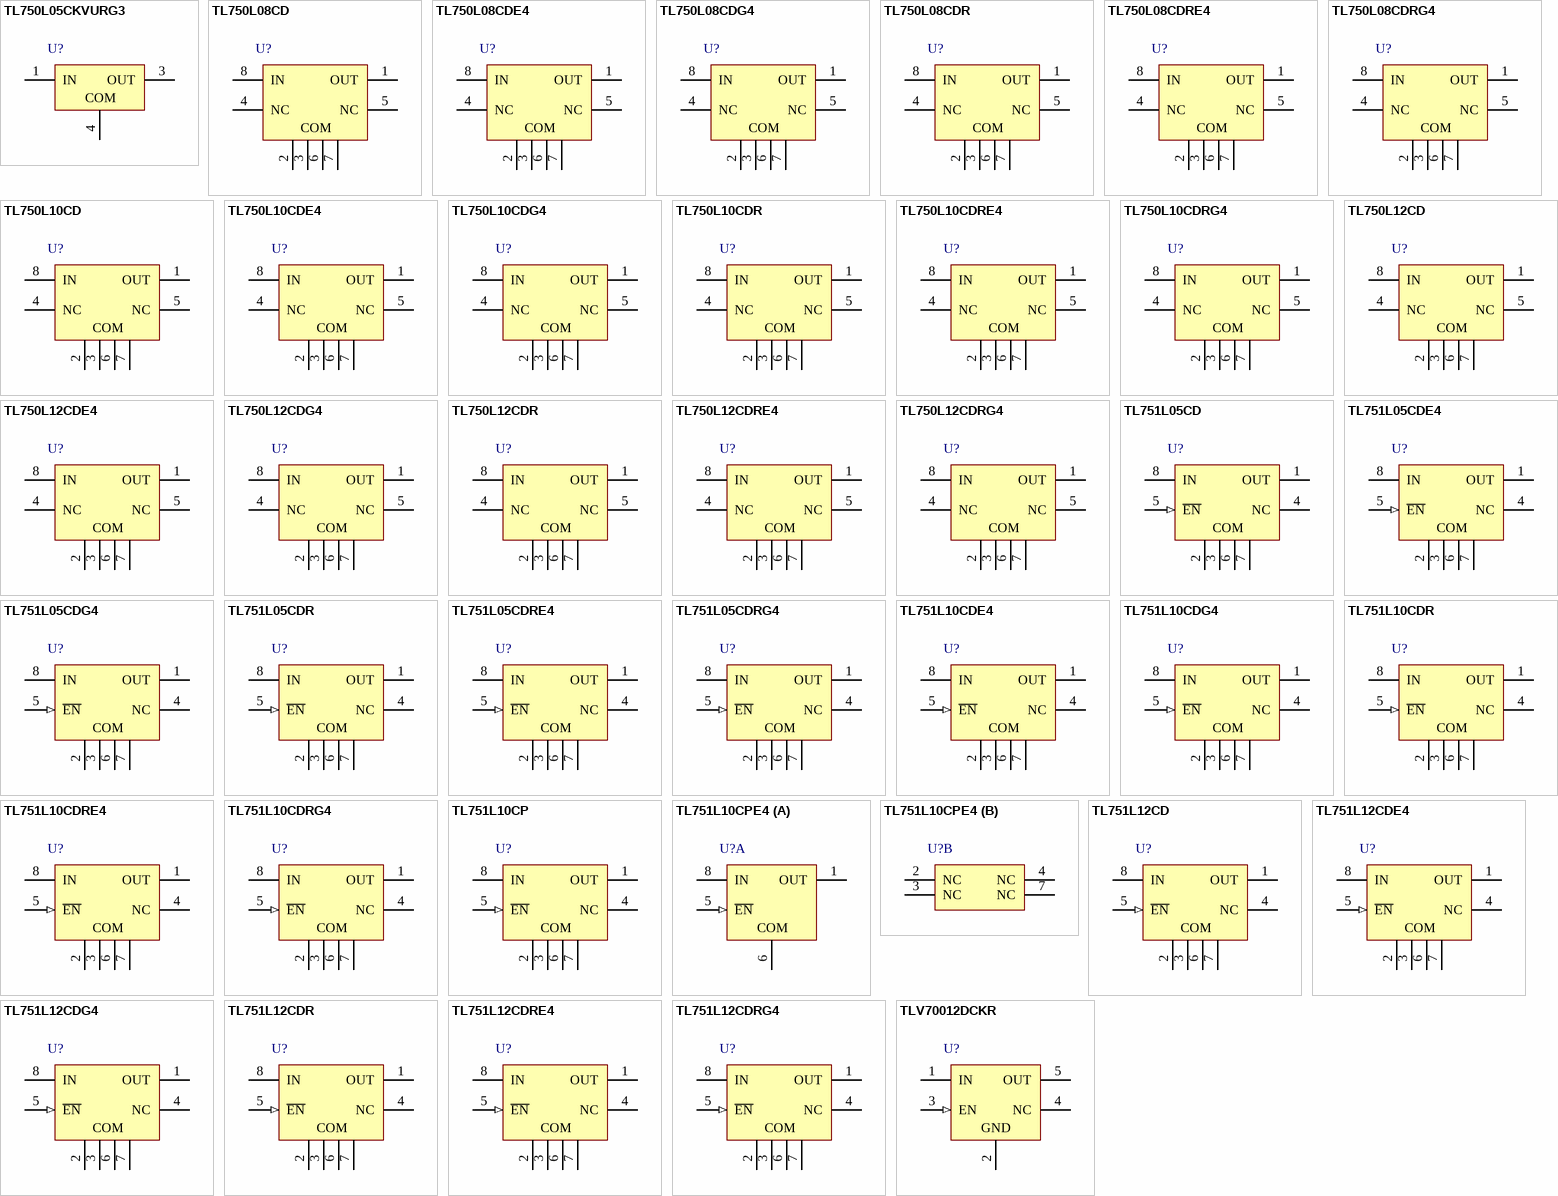
[diagram p3: symbols TL750L05CKVURG3 to TLV70012DCKR]

## TL750L05CKVURG3
designator U?
Single Output LDO, 150 mA, Fixed 5 V Output, 6 to 26 V Input, with Low IQ, 3-pin PFM (KVU), 0 to 125 degC, Green (RoHS & no Sb/Br); Manufacturer: Texas Instruments; PartNumber: TL750L05CKVURG3; Accuracy(%): 4; Fixed Output Options(V): 5; Iout(Max)(A): 0.15; Iq(Typ)(mA): 1; Rating: Catalog; SubFamily: Single Channel LDO; Vdo(Typ)(mV): 600; Vin(Max)(V): 26; Vin(Min)(V): 6; DatasheetVersion: SLVS017U; PackageVersion: 4205521-2/D; PackageReference: KVU3; PackageDescription: 3-Pin Plastic Flange Mount, Body 6.1 x 6.6 mm, Pitch 2.29 mm; Supplier 1: Digi-Key; Supplier Part Number 1: 296-27219-2-ND; Supplier 2: Digi-Key; Supplier Part Number 2: 296-27219-1-ND; Supplier 3: Digi-Key; Supplier Part Number 3: 296-27219-6-ND; Supplier 4: Newark; Supplier Part Number 4: 46M1062; Supplier 5: Mouser; Supplier Part Number 5: 595-TL750L05CKVURG3; Eco-Plan: Green (RoHS & no Sb/Br); Vout Adj(Max)(V): 5; Vout Adj(Min)(V): 5; Mounting Technology: Surface Mount; Code_JEDEC: TO-252; ComponentLink1Description: Manufacturer URL; ComponentLink1URL: http://www.ti.com/; ComponentLink2Description: Datasheet; ComponentLink2URL: http://www.ti.com/general/docs/lit/getliterature.tsp?genericPartNumber=TL750L05&fileType=pdf; ComponentLink3Description: Package Specification; ComponentLink3URL: http://www.ti.com/litv/pdf/mpsf018c; ComponentLink4Description: URL Link1; ComponentLink4URL: Samples URL:http://www.ti.com/product/tl750l05#samples
footprint TI-KVU3_N (DPAK, 3-Leads, Body 6.6x6.1mm, Pitch 2.29mm, IPC Medium Density)
footprint TI-KVU3_L (DPAK, 3-Leads, Body 6.6x6.1mm, Pitch 2.29mm, IPC High Density)
footprint TI-KVU3_M (DPAK, 3-Leads, Body 6.6x6.1mm, Pitch 2.29mm, IPC Low Density)
pins: 1 IN (power), 3 OUT (power), 4 COM (power)